# Altium footprint library Blue_pill.PcbLib: 1 footprints
Each footprint in its own frame and in the unit in brackets; x right, y up, seen from the top. Pads: shape width x height; smd on the part's side, far side on the other; paste and mask are expansions set on the pad; w line width, h text height; cw(c..) or ccw(c..) is an arc to the next point about the centre after c.
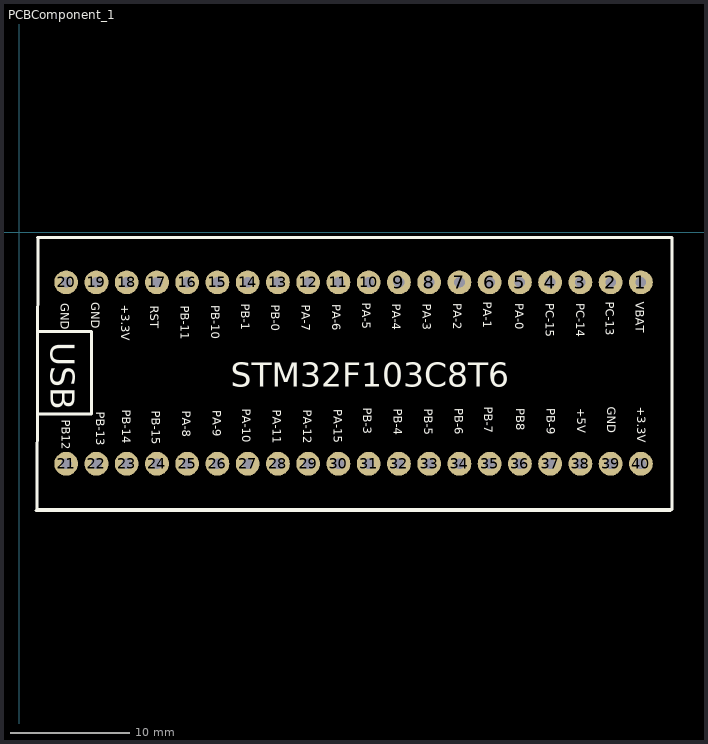
[diagram p0: the footprint, top view; thin cyan lines are the x and y axes]

## PCBComponent_1 [mm]
pads (40):
  round 2 hole 0.899 paste+0 mask+0.051: 1(52.197,-4.191) 2(49.657,-4.191) 3(47.117,-4.191) 4(44.577,-4.191) 5(42.037,-4.191) 6(39.497,-4.191) 7(36.957,-4.191) 8(34.417,-4.191) 9(31.877,-4.191) 10(29.337,-4.191) 11(26.797,-4.191) 12(24.257,-4.191) 13(21.717,-4.191) 14(19.177,-4.191) 15(16.637,-4.191) 16(14.097,-4.191) 17(11.557,-4.191) 18(9.017,-4.191) 19(6.477,-4.191) 20(3.937,-4.191) 21(3.937,-19.431) 22(6.477,-19.431) 23(9.017,-19.431) 24(11.557,-19.431) 25(14.097,-19.431) 26(16.637,-19.431) 27(19.177,-19.431) 28(21.717,-19.431) 29(24.257,-19.431) 30(26.797,-19.431) 31(29.337,-19.431) 32(31.877,-19.431) 33(34.417,-19.431) 34(36.957,-19.431) 35(39.497,-19.431) 36(42.037,-19.431) 37(44.577,-19.431) 38(47.117,-19.431) 39(49.657,-19.431) 40(52.197,-19.431)
Top Layer:
  lines w0.254: 49.581,-3.835 49.784,-4.039
Top Overlay:
  lines w0.254: 1.384,-23.355 54.673,-23.355 ; 1.502,-23.296 1.549,-0.432 ; 1.537,-23.292 54.826,-23.292 54.826,-0.432 ; 1.537,-0.445 54.826,-0.445 ; 1.575,-15.265 6.071,-15.265 6.071,-8.306 1.651,-8.306 1.626,-8.28
  text "USB" at 2.652,-9.22 h2.03
  text "STM32F103C8T6" at 17.755,-12.979 h2.03
  text "PB12" at 3.562,-15.723 h0.7
  text "PB-13" at 6.457,-15.062 h0.7
  text "PB-14" at 8.642,-14.884 h0.7
  text "PB-15" at 11.105,-14.961 h0.7
  text "PA-8" at 13.671,-14.961 h0.7
  text "PA-9" at 16.236,-14.935 h0.7
  text "PA-10" at 18.725,-14.808 h0.7
  text "PA-11" at 21.265,-14.884 h0.7
  text "PA-12" at 23.831,-14.884 h0.7
  text "PA-15" at 26.396,-14.859 h0.7
  text "PB-3" at 28.885,-14.732 h0.7
  text "PB-4" at 31.425,-14.808 h0.7
  text "PB-5" at 33.991,-14.808 h0.7
  text "PB-6" at 36.556,-14.783 h0.7
  text "PB-7" at 39.045,-14.656 h0.7
  text "PB8" at 41.738,-14.783 h0.7
  text "PB-9" at 44.303,-14.783 h0.7
  text "+5V" at 46.869,-14.757 h0.7
  text "GND" at 49.358,-14.63 h0.7
  text "+3.3V" at 51.872,-14.656 h0.7
  text "GND" at 3.485,-5.944 h0.7
  text "GND" at 6.051,-5.867 h0.7
  text "+3.3V" at 8.54,-6.071 h0.7
  text "RST" at 11.004,-6.147 h0.7
  text "PB-11" at 13.569,-6.147 h0.7
  text "PB-10" at 16.135,-6.121 h0.7
  text "PB-1" at 18.624,-5.994 h0.7
  text "PB-0" at 21.164,-6.071 h0.7
  text "PA-7" at 23.729,-6.071 h0.7
  text "PA-6" at 26.295,-6.045 h0.7
  text "PA-5" at 28.784,-5.918 h0.7
  text "PA-4" at 31.324,-5.994 h0.7
  text "PA-3" at 33.889,-5.994 h0.7
  text "PA-2" at 36.455,-5.969 h0.7
  text "PA-1" at 38.944,-5.842 h0.7
  text "PA-0" at 41.636,-5.969 h0.7
  text "PC-15" at 44.202,-5.969 h0.7
  text "PC-14" at 46.767,-5.944 h0.7
  text "PC-13" at 49.256,-5.817 h0.7
  text "VBAT" at 51.771,-5.842 h0.7
3D body "Blue Pill STM32.step": height 14.08, standoff -6.02, extent 0.355,-23.139 58.776,-0.279